# Altium footprint library 366380003.PcbLib: 1 footprints
Each footprint in its own frame and in the unit in brackets; x right, y up, seen from the top. Pads: shape width x height; smd on the part's side, far side on the other; paste and mask are expansions set on the pad; w line width, h text height; cw(c..) or ccw(c..) is an arc to the next point about the centre after c.
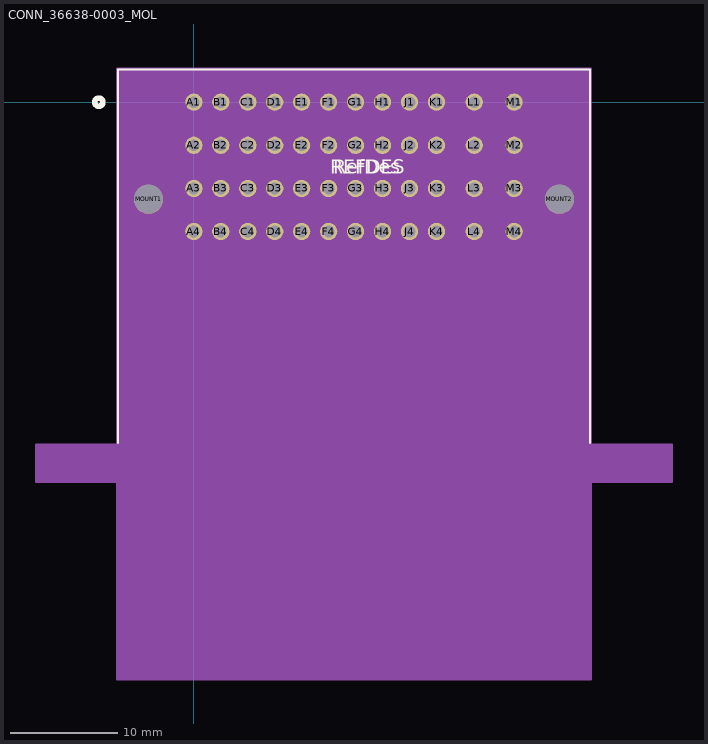
[diagram p0: the footprint, top view; thin cyan lines are the x and y axes]

## CONN_36638-0003_MOL [mil]
pads (50):
  round 63 / inner round 60 / far side round 63 hole 43 paste-31.5 mask+0: A1(0,0) A2(0,-157.48) A3(0,-314.96) A4(0,-472.44) B1(98.43,0) B2(98.43,-157.48) B3(98.43,-314.96) B4(98.43,-472.44) C1(196.85,0) C2(196.85,-157.48) C3(196.85,-314.96) C4(196.85,-472.44) D1(295.28,0) D2(295.28,-157.48) D3(295.28,-314.96) D4(295.28,-472.44) E1(393.7,0) E2(393.7,-157.48) E3(393.7,-314.96) E4(393.7,-472.44) F1(492.13,0) F2(492.13,-157.48) F3(492.13,-314.96) F4(492.13,-472.44) G1(590.55,0) G2(590.55,-157.48) G3(590.55,-314.96) G4(590.55,-472.44) H1(688.98,0) H2(688.98,-157.48) H3(688.98,-314.96) H4(688.98,-472.44) J1(787.4,0) J2(787.4,-157.48) J3(787.4,-314.96) J4(787.4,-472.44) K1(885.83,0) K2(885.83,-157.48) K3(885.83,-314.96) K4(885.83,-472.44) L1(1023.62,0) L2(1023.62,-157.48) L3(1023.62,-314.96) L4(1023.62,-472.44) M1(1169.29,0) M2(1169.29,-157.48) M3(1169.29,-314.96) M4(1169.29,-472.44)
  round 106 / inner round 60 / far side round 106 hole 106 unplated paste+0 mask+0: MOUNT1(-165.35,-354.33) MOUNT2(1334.65,-354.33)
Top Overlay:
  circle w20: c-346.85,0 r15
  lines w6: -276.85,-1244.9 -276.85,119.17 1446.15,119.17 1446.15,-1244.9
  text "REFDES" at 497.15,-261.22 h50
  text "RefDes" at 509.65,-261.22 h50
Mechanical 13:
  circle w20: c0,75 r15
  lines w1: -566.85,-1377.9 -566.85,-1259.9 ; -566.85,-1377.9 -566.85,-1259.9 ; -566.85,-1377.9 -271.85,-1377.9 -271.85,-2098.83 1441.15,-2098.83 1441.15,-1377.9 1736.15,-1377.9 1736.15,-1259.9 1441.15,-1259.9 1441.15,114.17 -271.85,114.17 -271.85,-1259.9 -566.85,-1259.9
  text "RefDes2" at 497.15,-261.22 h50
Mechanical 15:
  region: -281.85,-2108.83 1451.15,-2108.83 1451.15,-1387.9 1746.15,-1387.9 1746.15,-1249.9 1451.15,-1249.9 1451.15,124.17 -281.85,124.17 -281.85,-1249.9 -576.85,-1249.9 -576.85,-1387.9 -281.85,-1387.9
  lines w6: -576.85,-1387.9 -576.85,-1249.9 -281.85,-1249.9 -281.85,124.17 1451.15,124.17 1451.15,-1249.9 1746.15,-1249.9 1746.15,-1387.9 1451.15,-1387.9 1451.15,-2108.83 -281.85,-2108.83 -281.85,-1387.9 -576.85,-1387.9
Multi-Layer:
  lines w1: -566.85,-1377.9 -271.85,-1377.9 -271.85,-2098.83 1441.15,-2098.83 1441.15,-1377.9 1736.15,-1377.9 1736.15,-1259.9 -566.85,-1259.9 -566.85,-1377.9